# EAGLE library part HEF4528BP (library NXP_By_element14_Batch_1)
Dual monostable multivibrator
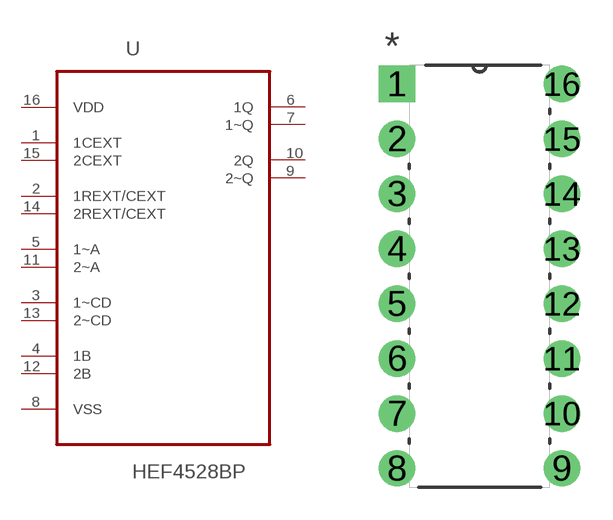
[diagram p285: symbol with the pads of DIP254P762X420-16; footprint DIP254P762X420-16]

Designator prefix U

## HEF4528BP (MPN: HEF4528BP; OC_FARNELL: 386273; OC_NEWARK: 10WX5509; PACKAGE: DIP-16; SUPPLIER: NXP)  [DIP254P762X420-16]
1  1CEXT  pas
2  1REXT/CEXT  pas
3  1~CD  in
4  1B  in
5  1~A  in
6  1Q  out
7  1~Q  out
8  VSS  pas
9  2~Q  out
10  2Q  out
11  2~A  in
12  2B  in
13  2~CD  in
14  2REXT/CEXT  pas
15  2CEXT  pas
16  VDD  pwr

## Footprint DIP254P762X420-16 (pad centres in mm)
drill 1.118 square: 1 -7.62,17.78
drill 1.118: 2 -7.62,15.24; 3 -7.62,12.7; 4 -7.62,10.16; 5 -7.62,7.62; 6 -7.62,5.08; 7 -7.62,2.54; 8 -7.62,0; 9 0,0; 10 0,2.54; 11 0,5.08; 12 0,7.62; 13 0,10.16; 14 0,12.7; 15 0,15.24; 16 0,17.78